# Altium schematic symbol library TPS7A3301.Schlib: 1 symbol
Pins are listed as number, name and electrical type; pins without a type are passive.

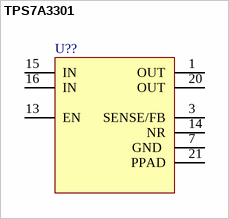
[diagram p0: symbol TPS7A3301]

## TPS7A3301
designator U??
pins: 1 OUT, 3 SENSE/FB, 7 GND , 13 EN , 14 NR, 15 IN, 16 IN, 20 OUT, 21 PPAD